# EAGLE library part TDA8922TH (library Audio-Power-amlifier V.2.0)
The TDA8922C is a high-efficiency Class D audio power amplifier. Typical output power is 2 ´ 75 W with a speaker load impedance of 6 W. The TDA8922C is available in both HSOP24 and DBS23P power packages. The amplifier operates over a wide supply voltage range from ±12.5 V to ±32.5 V and features low quiescent current consumption.
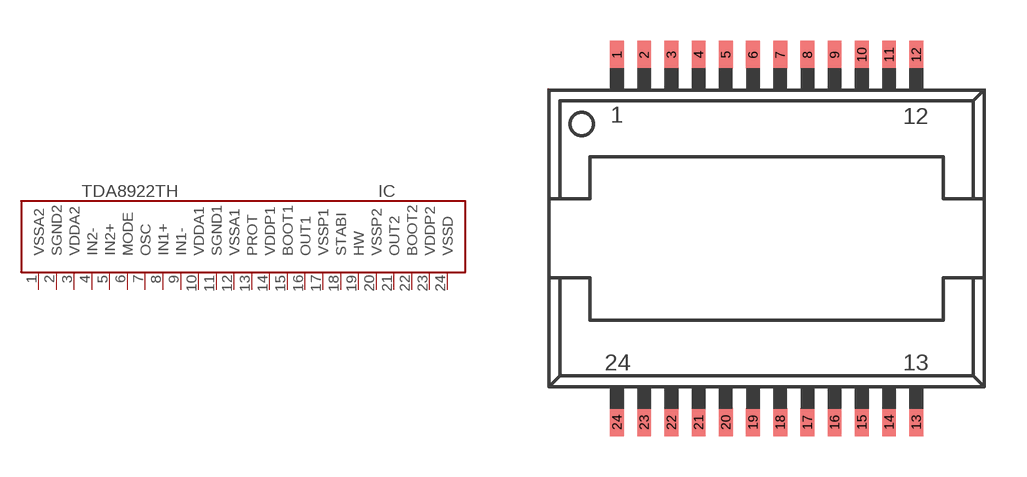
[diagram p218: symbol with the pads of SOT566-3; footprint SOT566-3]

Designator prefix IC

## TDA8922THTDA8922TH  [SOT566-3]
1  VSSA2  pwr
2  SGND2  pwr
3  VDDA2  pwr
4  IN2-  in
5  IN2+  in
6  MODE  in
7  OSC  in
8  IN1+  in
9  IN1-  in
10  VDDA1  pwr
11  SGND1  pwr
12  VSSA1  pwr
13  PROT
14  VDDP1  pwr
15  BOOT1
16  OUT1  out
17  VSSP1  pwr
18  STABI
19  HW
20  VSSP2  pwr
21  OUT2  out
22  BOOT2
23  VDDP2  pwr
24  VSSD  pwr

## Footprint SOT566-3 (pad centres in mm)
smd 0.508 x 1.016: 1 -5.5,6.75; 2 -4.5,6.75; 3 -3.5,6.75; 4 -2.5,6.75; 5 -1.5,6.75; 6 -0.5,6.75; 7 0.5,6.75; 8 1.5,6.75; 9 2.5,6.75; 10 3.5,6.75; 11 4.5,6.75; 12 5.5,6.75; 13 5.5,-6.75; 14 4.5,-6.75; 15 3.5,-6.75; 16 2.5,-6.75; 17 1.5,-6.75; 18 0.5,-6.75; 19 -0.5,-6.75; 20 -1.5,-6.75; 21 -2.5,-6.75; 22 -3.5,-6.75; 23 -4.5,-6.75; 24 -5.5,-6.75